# Altium footprint library elec_array.PcbLib: 3 footprints
Each footprint in its own frame and in the unit in brackets; x right, y up, seen from the top. Pads: shape width x height; smd on the part's side, far side on the other; paste and mask are expansions set on the pad; w line width, h text height; cw(c..) or ccw(c..) is an arc to the next point about the centre after c.
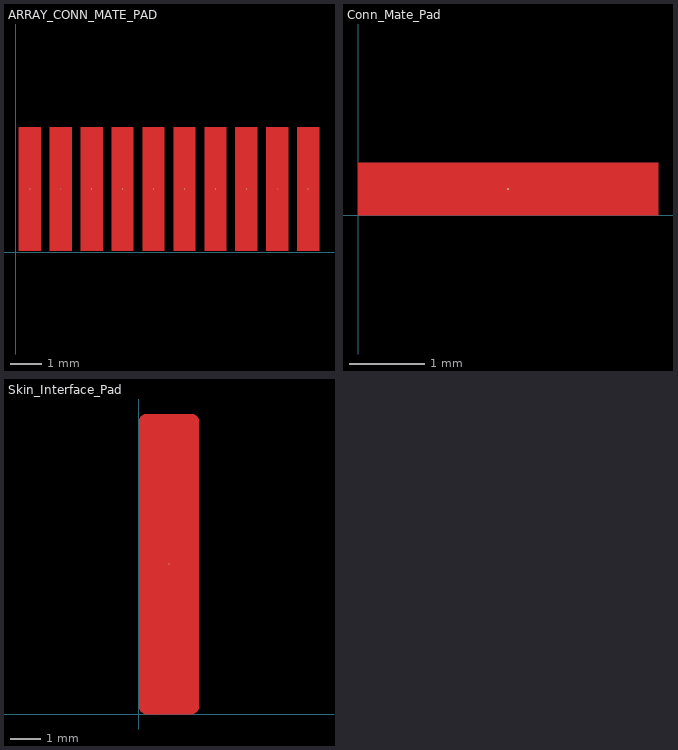
[diagram p0: the footprints below, top view; thin cyan lines are the x and y axes]

## ARRAY_CONN_MATE_PAD [mm]
pads (10):
  round 0.025 smd: 1(0.45,2.05) 2(1.45,2.05) 3(2.45,2.05) 4(3.45,2.05) 5(4.45,2.05) 6(5.45,2.05) 7(6.45,2.05) 8(7.45,2.05) 9(8.45,2.05) 10(9.45,2.05)
Top Layer:
  region: 9.1,4.05 9.8,4.05 9.8,0.05 9.1,0.05
  region: 0.1,4.05 0.8,4.05 0.8,0.05 0.1,0.05
  region: 2.1,4.05 2.8,4.05 2.8,0.05 2.1,0.05
  region: 4.1,4.05 4.8,4.05 4.8,0.05 4.1,0.05
  region: 6.1,4.05 6.8,4.05 6.8,0.05 6.1,0.05
  region: 8.1,4.05 8.8,4.05 8.8,0.05 8.1,0.05
  region: 1.1,4.05 1.8,4.05 1.8,0.05 1.1,0.05
  region: 3.1,4.05 3.8,4.05 3.8,0.05 3.1,0.05
  region: 5.1,4.05 5.8,4.05 5.8,0.05 5.1,0.05
  region: 7.1,4.05 7.8,4.05 7.8,0.05 7.1,0.05

## Conn_Mate_Pad [mm]
pads (1):
  round 0.025 smd: 1(2,0.35)
Top Layer:
  region: 0,0 0,0.7 4,0.7 4,0

## Skin_Interface_Pad [mm]
pads (1):
  round 0.025 smd: 1(1,5)
Top Layer:
  region: 0,0.254 0,9.746 0,9.771 0.01,9.82 0.029,9.866 0.057,9.908 0.092,9.943 0.134,9.971 0.18,9.99 0.229,10 0.254,10 1.746,10 1.771,10 1.82,9.99 1.866,9.971 1.908,9.943 1.943,9.908 1.971,9.866 1.99,9.82 2,9.771 2,9.746 2,0.254 2,0.229 1.99,0.18 1.971,0.134 1.943,0.092 1.908,0.057 1.866,0.029 1.82,0.01 1.771,0 1.746,0 0.254,0 0.229,0 0.18,0.01 0.134,0.029 0.092,0.057 0.057,0.092 0.029,0.134 0.01,0.18 0,0.229